# EAGLE library part M6 (library FSAE Eletric)
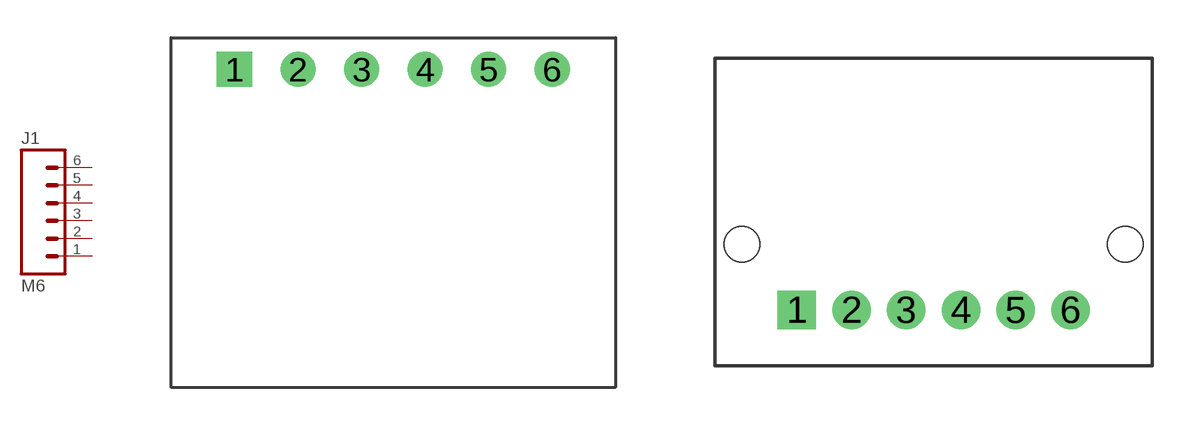
[diagram p57: symbol with the pads of 103906-5; footprints 103906-5, 559350610]

Designator prefix J1

## M61  [103906-5]
1  1  pas
2  2  pas
3  3  pas
4  4  pas
5  5  pas
6  6  pas

## M62  [559350610]
Pads as for 103906-5

## Footprint 103906-5 (pad centres in mm)
drill 0.9 square: 1 -2.54,0
drill 0.9: 2 0,0; 3 2.54,0; 4 5.08,0; 5 7.62,0; 6 10.16,0

## Footprint 559350610 (pad centres in mm)
drill 0.9 square: 1 -5,0
drill 0.9: 2 -3,0; 3 -1,0; 4 1,0; 5 3,0; 6 5,0
hole 1.3 at 7,2.4
hole 1.3 at -7,2.4